# EAGLE library part MAX4602_SMD (library PocketCube)
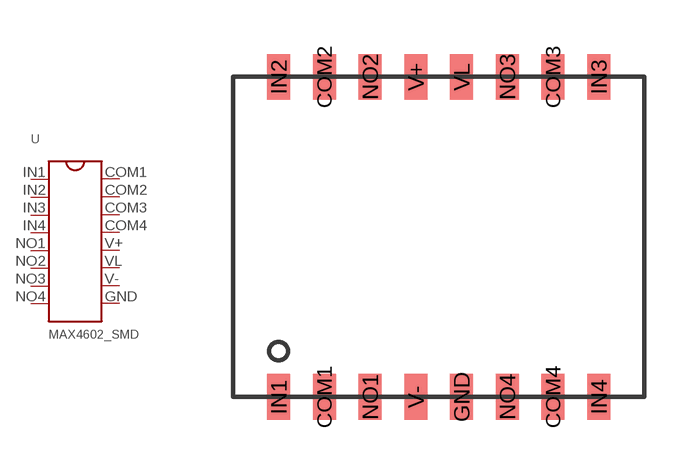
[diagram p18: symbol with the pads of MAX4602_SMD; footprint MAX4602_SMD]

Designator prefix -

## MAX4602_SMD  [MAX4602_SMD]
COM1  COM1
COM2  COM2
COM3  COM3
COM4  COM4
GND  GND
IN1  IN1
IN2  IN2
IN3  IN3
IN4  IN4
NO1  NO1
NO2  NO2
NO3  NO3
NO4  N04
V+  V+
V-  V-
VL  VL

## Footprint MAX4602_SMD (pad centres in mm)
smd 0.635 x 1.27: COM1 1.27,0; COM2 1.27,8.89; COM3 7.62,8.89; COM4 7.62,0; GND 5.08,0; IN1 0,0; IN2 0,8.89; IN3 8.89,8.89; IN4 8.89,0; NO1 2.54,0; NO2 2.54,8.89; NO3 6.35,8.89; NO4 6.35,0; V+ 3.81,8.89; V- 3.81,0; VL 5.08,8.89